# Altium footprint library USBC.PcbLib: 1 footprints
Each footprint in its own frame and in the unit in brackets; x right, y up, seen from the top. Pads: shape width x height; smd on the part's side, far side on the other; paste and mask are expansions set on the pad; w line width, h text height; cw(c..) or ccw(c..) is an arc to the next point about the centre after c.
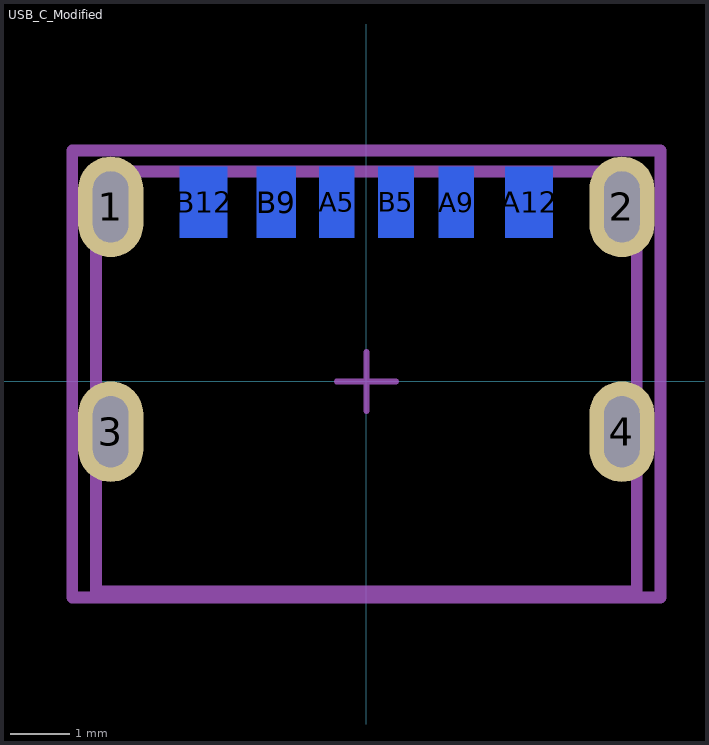
[diagram p0: the footprint, top view; thin cyan lines are the x and y axes]

## USB_C_Modified [mm]
pads (10):
  rrect100% 1.1x1.7 hole 1.2 slot 0.6 at 0 deg paste-2539.97 mask+0: 1(-4.32,2.95) 2(4.32,2.95) 3(-4.32,-0.85) 4(4.32,-0.85)
  rect 0.598x1.2 smd far side paste+0 mask+0: A5(-0.5,3.03) A9(1.52,3.03) B5(0.5,3.03)
  rect 0.8x1.2 smd far side paste+0 mask+0: A12(2.75,3.03) B12(-2.75,3.03)
  rect 0.658x1.2 smd far side paste+0 mask+0: B9(-1.52,3.03)
Bottom Overlay:
  circle w0.25: c-5.461,3.429 r0.125
  lines w0.2: -4.57,-2.075 -4.57,-3.55 4.57,-3.55 4.57,-2.075 ; -4.57,0.375 -4.57,1.725 ; 4.57,0.375 4.57,1.725
Bottom Assembly:
  lines w0.2: -4.97,-3.65 4.97,-3.65 4.97,3.9 -4.97,3.9 -4.97,-3.65
  text ".Designator" at 0,0.313 h1
Bottom Courtyard:
  lines w0.2: -4.97,-3.65 4.97,-3.65 4.97,3.9 -4.97,3.9 -4.97,-3.65
Bottom 3D Body:
  lines w0.2: -4.57,-3.55 4.57,-3.55 4.57,3.55 -4.57,3.55 -4.57,-3.55
Bottom Component Center:
  lines w0.1: -0.5,0 0.5,0 ; 0,-0.5 0,0.5
3D body "Conn_Molex_217175-0001_eec.STEP": height 3.46, standoff -2.1, extent -4.47,-3.45 4.47,3.45